# EAGLE library part CASTELLATIONS_SOP-16 (library jrodrigo-gameboy)
1x16 .1" header
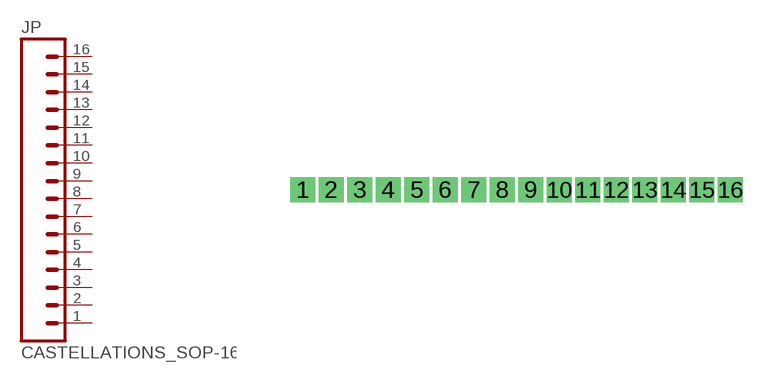
[diagram p7: symbol with the pads of CASTELLATIONS_SOP-16; footprint CASTELLATIONS_SOP-16]

Designator prefix JP

## CASTELLATIONS_SOP-16*  [CASTELLATIONS_SOP-16]
1  1  pas
2  2  pas
3  3  pas
4  4  pas
5  5  pas
6  6  pas
7  7  pas
8  8  pas
9  9  pas
10  10  pas
11  11  pas
12  12  pas
13  13  pas
14  14  pas
15  15  pas
16  16  pas

## Footprint CASTELLATIONS_SOP-16 (pad centres in mm)
drill 0.6 pad 0.889 square: 1 0,0; 2 1.27,0; 3 2.54,0; 4 3.81,0; 5 5.08,0; 6 6.35,0; 7 7.62,0; 8 8.89,0; 9 10.16,0; 10 11.43,0; 11 12.7,0; 12 13.97,0; 13 15.24,0; 14 16.51,0; 15 17.78,0; 16 19.05,0